# EAGLE library part I-11003_MACHXO2-256_LCMXO2-256HC-4TG100C (library Akizuki)
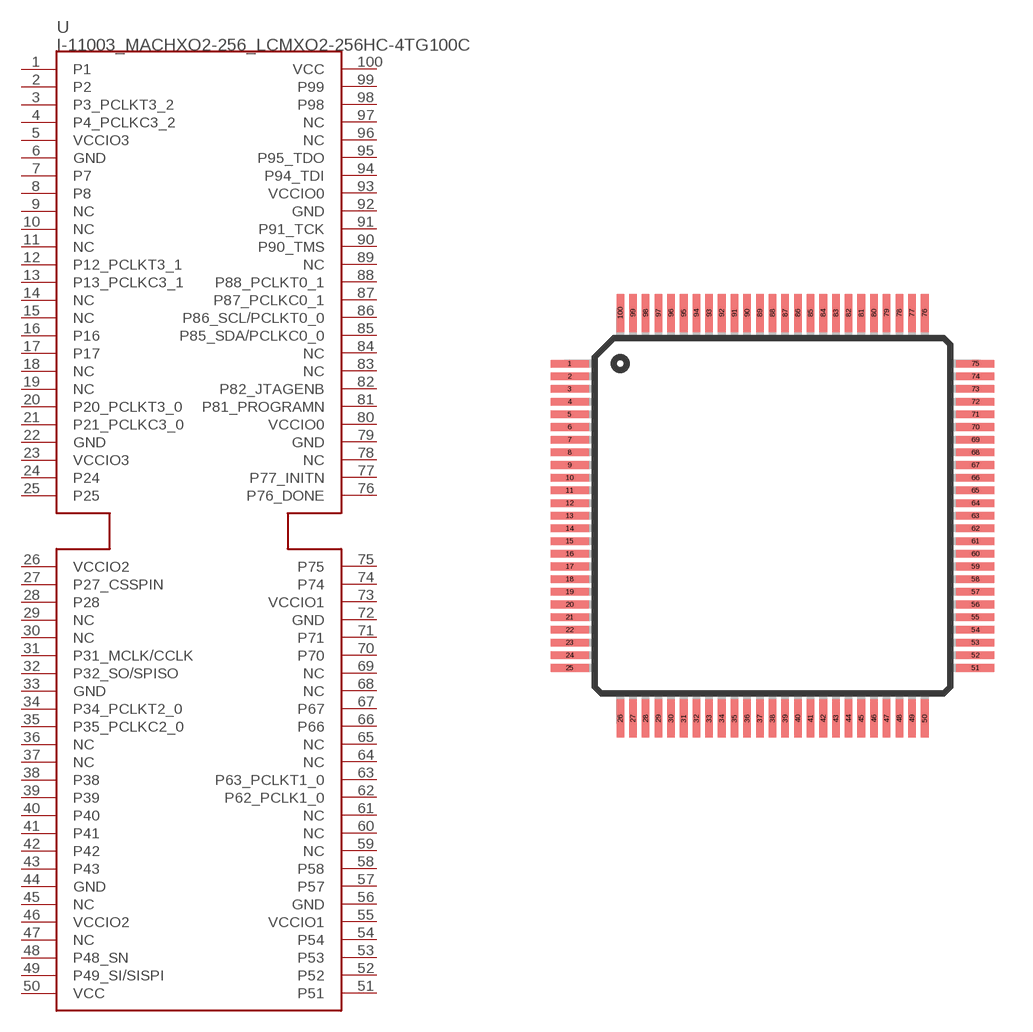
[diagram p39: symbol with the pads of TQFP100; footprint TQFP100]

Designator prefix U

## I-11003_MACHXO2-256_LCMXO2-256HC-4TG100C  [TQFP100]
1  P1
2  P2
3  P3_PCLKT3_2
4  P4_PCLKC3_2
5  VCCIO3
6  GND
7  P7
8  P8
9  NC
10  NC
11  NC
12  P12_PCLKT3_1
13  P13_PCLKC3_1
14  NC
15  NC
16  P16
17  P17
18  NC
19  NC
20  P20_PCLKT3_0
21  P21_PCLKC3_0
22  GND
23  VCCIO3
24  P24
25  P25
26  VCCIO2
27  P27_CSSPIN
28  P28
29  NC
30  NC
31  P31_MCLK/CCLK
32  P32_SO/SPISO
33  GND
34  P34_PCLKT2_0
35  P35_PCLKC2_0
36  NC
37  NC
38  P38
39  P39
40  P40
41  P41
42  P42
43  P43
44  GND
45  NC
46  VCCIO2
47  NC
48  P48_SN
49  P49_SI/SISPI
50  VCC
51  P51
52  P52
53  P53
54  P54
55  VCCIO1
56  GND
57  P57
58  P58
59  NC
60  NC
61  NC
62  P62_PCLK1_0
63  P63_PCLKT1_0
64  NC
65  NC
66  P66
67  P67
68  NC
69  NC
70  P70
71  P71
72  GND
73  VCCIO1
74  P74
75  P75
76  P76_DONE
77  P77_INITN
78  NC
79  GND
80  VCCIO0
81  P81_PROGRAMN
82  P82_JTAGENB
83  NC
84  NC
85  P85_SDA/PCLKC0_0
86  P86_SCL/PCLKT0_0
87  P87_PCLKC0_1
88  P88_PCLKT0_1
89  NC
90  P90_TMS
91  P91_TCK
92  GND
93  VCCIO0
94  P94_TDI
95  P95_TDO
96  NC
97  NC
98  P98
99  P99
100  VCC

## Footprint TQFP100 (pad centres in mm)
Thin Quad Flat Package
smd 1.5 x 0.3: 1 -8,6; 2 -8,5.5; 3 -8,5; 4 -8,4.5; 5 -8,4; 6 -8,3.5; 7 -8,3; 8 -8,2.5; 9 -8,2; 10 -8,1.5; 11 -8,1; 12 -8,0.5; 13 -8,0; 14 -8,-0.5; 15 -8,-1; 16 -8,-1.5; 17 -8,-2; 18 -8,-2.5; 19 -8,-3; 20 -8,-3.5; 21 -8,-4; 22 -8,-4.5; 23 -8,-5; 24 -8,-5.5; 25 -8,-6; 51 8,-6; 52 8,-5.5; 53 8,-5; 54 8,-4.5; 55 8,-4; 56 8,-3.5; 57 8,-3; 58 8,-2.5; 59 8,-2; 60 8,-1.5; 61 8,-1; 62 8,-0.5; 63 8,0; 64 8,0.5; 65 8,1; 66 8,1.5; 67 8,2; 68 8,2.5; 69 8,3; 70 8,3.5; 71 8,4; 72 8,4.5; 73 8,5; 74 8,5.5; 75 8,6
smd 0.3 x 1.5: 26 -6,-8; 27 -5.5,-8; 28 -5,-8; 29 -4.5,-8; 30 -4,-8; 31 -3.5,-8; 32 -3,-8; 33 -2.5,-8; 34 -2,-8; 35 -1.5,-8; 36 -1,-8; 37 -0.5,-8; 38 0,-8; 39 0.5,-8; 40 1,-8; 41 1.5,-8; 42 2,-8; 43 2.5,-8; 44 3,-8; 45 3.5,-8; 46 4,-8; 47 4.5,-8; 48 5,-8; 49 5.5,-8; 50 6,-8; 76 6,8; 77 5.5,8; 78 5,8; 79 4.5,8; 80 4,8; 81 3.5,8; 82 3,8; 83 2.5,8; 84 2,8; 85 1.5,8; 86 1,8; 87 0.5,8; 88 0,8; 89 -0.5,8; 90 -1,8; 91 -1.5,8; 92 -2,8; 93 -2.5,8; 94 -3,8; 95 -3.5,8; 96 -4,8; 97 -4.5,8; 98 -5,8; 99 -5.5,8; 100 -6,8